# EAGLE library part NANO_PI (library Camera_Board_Parts_09_30_2020)
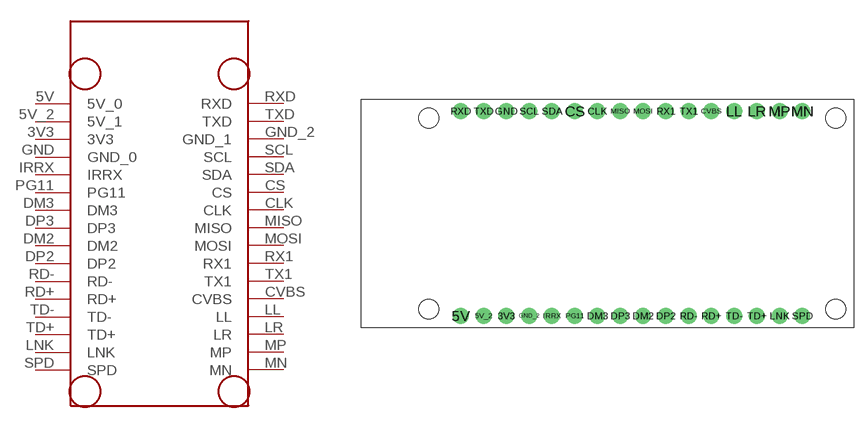
[diagram p0: symbol with the pads of NANO_PI; footprint NANO_PI]

Designator prefix -

## NANO_PI  [NANO_PI]
3V3  3V3
5V  5V_0
5V_2  5V_1
CLK  CLK
CS  CS
CVBS  CVBS
DM2  DM2
DM3  DM3
DP2  DP2
DP3  DP3
GND  GND_0
GND_2  GND_1
IRRX  IRRX
LL  LL
LNK  LNK
LR  LR
MISO  MISO
MN  MN
MOSI  MOSI
MP  MP
PG11  PG11
RD+  RD+
RD-  RD-
RX1  RX1
RXD  RXD
SCL  SCL
SDA  SDA
SPD  SPD
TD+  TD+
TD-  TD-
TX1  TX1
TXD  TXD

## Footprint NANO_PI (pad centres in mm)
drill 1.016 pad 1.778: 3V3 16.221,1.27; 5V 11.141,1.27; 5V_2 13.681,1.27; CLK 26.381,24.13; CS 23.841,24.13; CVBS 39.081,24.13; DM2 31.461,1.27; DM3 26.381,1.27; DP2 34.001,1.27; DP3 28.921,1.27; GND 16.221,24.13; GND_2 18.761,1.27; IRRX 21.301,1.27; LL 41.621,24.13; LNK 46.701,1.27; LR 44.161,24.13; MISO 28.921,24.13; MN 49.241,24.13; MOSI 31.461,24.13; MP 46.701,24.13; PG11 23.841,1.27; RD+ 39.081,1.27; RD- 36.541,1.27; RX1 34.001,24.13; RXD 11.141,24.13; SCL 18.761,24.13; SDA 21.301,24.13; SPD 49.241,1.27; TD+ 44.161,1.27; TD- 41.621,1.27; TX1 36.541,24.13; TXD 13.681,24.13
hole 2.2 at 52.97,2.03
hole 2.2 at 7.56,2.03
hole 2.2 at 7.56,23.37
hole 2.2 at 52.97,23.37